# Altium integrated library Agilent Optoelectronic LED.IntLib: 357 symbols (part 3 of 6)
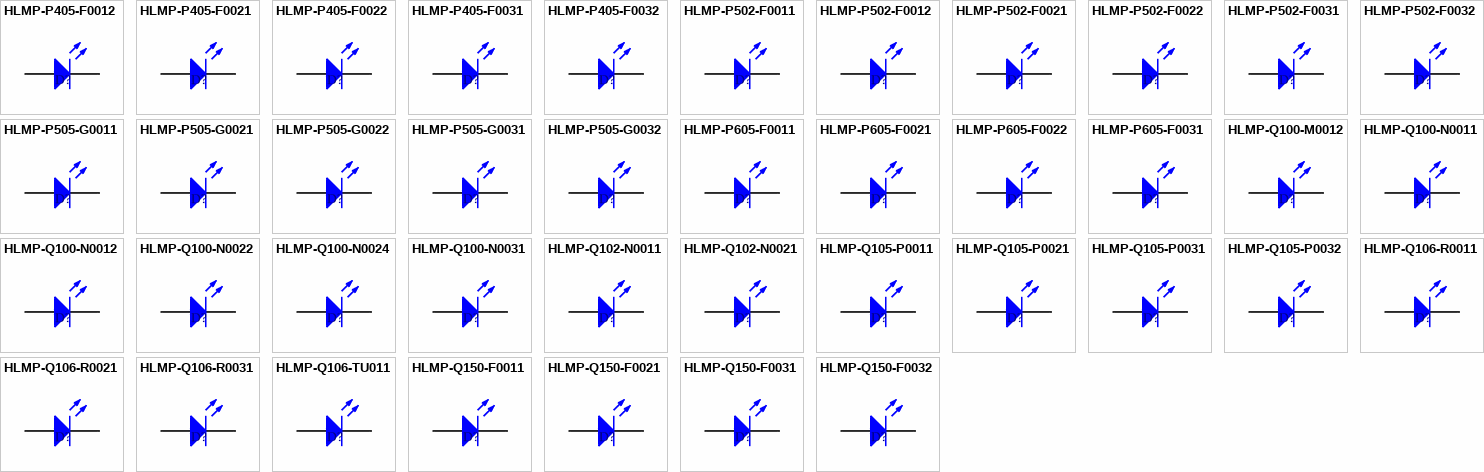
[diagram p10: symbols HLMP-P405-F0012 to HLMP-Q150-F0032]

## HLMP-P505-G0021
designator D?
Subminiature Green LED Lamp; LuminousIntensity: 1.6mcd (Minimum).; PCB_Layout: Complies with manufacturer's recommendation.; DrillSize: Nominal, Rounded to nearest 0.05mm; Published: 11-Dec-2002; DatasheetDocument: 30-Apr-2002; PackageDocument: 19-Apr-2001; PackageReference: 2.2X2.1X2.2Y; Publisher: Altium Limited; LED_Colour: Green; ComponentLink1Description: Manufacturer Link; ComponentLink1URL: http://www.agilent.com/; ComponentLink2Description: Datasheet; ComponentLink2URL: http://cp.literature.agilent.com/litweb/pdf/5988-6260EN.pdf
footprint 2.2X2.1X2.2Y (SM LED; 2 Yoke Leads)
simulation model Agl_HLMP7040 (Diode)
signal-integrity model LED
pins: 1 A, 2 K

## HLMP-P505-G0022
designator D?
Subminiature Green LED Lamp; LuminousIntensity: 1.6mcd (Minimum).; PCB_Layout: Complies with manufacturer's recommendation.; DrillSize: Nominal, Rounded to nearest 0.05mm; Published: 11-Dec-2002; DatasheetDocument: 30-Apr-2002; PackageDocument: 19-Apr-2001; PackageReference: 2.2X2.1X2.2Y; Publisher: Altium Limited; LED_Colour: Green; ComponentLink1Description: Manufacturer Link; ComponentLink1URL: http://www.agilent.com/; ComponentLink2Description: Datasheet; ComponentLink2URL: http://cp.literature.agilent.com/litweb/pdf/5988-6260EN.pdf
footprint 2.2X2.1X2.2Y (SM LED; 2 Yoke Leads)
simulation model Agl_HLMP7040 (Diode)
signal-integrity model LED
pins: 1 A, 2 K

## HLMP-P505-G0031
designator D?
Subminiature Green LED Lamp; LuminousIntensity: 1.6mcd (Minimum).; PCB_Layout: Complies with manufacturer's recommendation.; DrillSize: Nominal, Rounded to nearest 0.05mm; Published: 11-Dec-2002; DatasheetDocument: 30-Apr-2002; PackageDocument: 19-Apr-2001; PackageReference: 2.2X2.1X2.2Z; Publisher: Altium Limited; LED_Colour: Green; ComponentLink1Description: Manufacturer Link; ComponentLink1URL: http://www.agilent.com/; ComponentLink2Description: Datasheet; ComponentLink2URL: http://cp.literature.agilent.com/litweb/pdf/5988-6260EN.pdf
footprint 2.2X2.1X2.2Z (SM LED; 2 Z-Bend Leads)
simulation model Agl_HLMP7040 (Diode)
signal-integrity model LED
pins: 1 A, 2 K

## HLMP-P505-G0032
designator D?
Subminiature Green LED Lamp; LuminousIntensity: 1.6mcd (Minimum).; PCB_Layout: Complies with manufacturer's recommendation.; DrillSize: Nominal, Rounded to nearest 0.05mm; Published: 11-Dec-2002; DatasheetDocument: 30-Apr-2002; PackageDocument: 19-Apr-2001; PackageReference: 2.2X2.1X2.2Z; Publisher: Altium Limited; LED_Colour: Green; ComponentLink1Description: Manufacturer Link; ComponentLink1URL: http://www.agilent.com/; ComponentLink2Description: Datasheet; ComponentLink2URL: http://cp.literature.agilent.com/litweb/pdf/5988-6260EN.pdf
footprint 2.2X2.1X2.2Z (SM LED; 2 Z-Bend Leads)
simulation model Agl_HLMP7040 (Diode)
signal-integrity model LED
pins: 1 A, 2 K

## HLMP-P605-F0011
designator D?
Subminiature Green LED Lamp; LuminousIntensity: 1mcd (Minimum).; PCB_Layout: Complies with manufacturer's recommendation.; Published: 11-Dec-2002; LatestRevisionDate: 19-Mar-2004; LatestRevisionNote: Silkscreen size reduced.; DatasheetDocument: 30-Apr-2002; PackageDocument: 19-Apr-2001; PackageReference: 2.2X2.1X2.2; Publisher: Altium Limited; LED_Colour: Green; ComponentLink1Description: Manufacturer Link; ComponentLink1URL: http://www.agilent.com/; ComponentLink2Description: Datasheet; ComponentLink2URL: http://cp.literature.agilent.com/litweb/pdf/5988-6260EN.pdf
footprint 2.2X2.1X2.2 (SM LED; 2 Gull Wing Leads; Body 2.2 x 2.1 mm, (LxW))
simulation model Agl_HLMPQ605 (Diode)
signal-integrity model LED
pins: 1 A, 2 K

## HLMP-P605-F0021
designator D?
Subminiature Green LED Lamp; LuminousIntensity: 1mcd (Minimum).; PCB_Layout: Complies with manufacturer's recommendation.; DrillSize: Nominal, Rounded to nearest 0.05mm; Published: 11-Dec-2002; DatasheetDocument: 30-Apr-2002; PackageDocument: 19-Apr-2001; PackageReference: 2.2X2.1X2.2Y; Publisher: Altium Limited; LED_Colour: Green; ComponentLink1Description: Manufacturer Link; ComponentLink1URL: http://www.agilent.com/; ComponentLink2Description: Datasheet; ComponentLink2URL: http://cp.literature.agilent.com/litweb/pdf/5988-6260EN.pdf
footprint 2.2X2.1X2.2Y (SM LED; 2 Yoke Leads)
simulation model Agl_HLMPQ605 (Diode)
signal-integrity model LED
pins: 1 A, 2 K

## HLMP-P605-F0022
designator D?
Subminiature Green LED Lamp; LuminousIntensity: 1mcd (Minimum).; PCB_Layout: Complies with manufacturer's recommendation.; DrillSize: Nominal, Rounded to nearest 0.05mm; Published: 11-Dec-2002; DatasheetDocument: 30-Apr-2002; PackageDocument: 19-Apr-2001; PackageReference: 2.2X2.1X2.2Y; Publisher: Altium Limited; LED_Colour: Green; ComponentLink1Description: Manufacturer Link; ComponentLink1URL: http://www.agilent.com/; ComponentLink2Description: Datasheet; ComponentLink2URL: http://cp.literature.agilent.com/litweb/pdf/5988-6260EN.pdf
footprint 2.2X2.1X2.2Y (SM LED; 2 Yoke Leads)
simulation model Agl_HLMPQ605 (Diode)
signal-integrity model LED
pins: 1 A, 2 K

## HLMP-P605-F0031
designator D?
Subminiature Green LED Lamp; LuminousIntensity: 1mcd (Minimum).; PCB_Layout: Complies with manufacturer's recommendation.; DrillSize: Nominal, Rounded to nearest 0.05mm; Published: 11-Dec-2002; DatasheetDocument: 30-Apr-2002; PackageDocument: 19-Apr-2001; PackageReference: 2.2X2.1X2.2Z; Publisher: Altium Limited; LED_Colour: Green; ComponentLink1Description: Manufacturer Link; ComponentLink1URL: http://www.agilent.com/; ComponentLink2Description: Datasheet; ComponentLink2URL: http://cp.literature.agilent.com/litweb/pdf/5988-6260EN.pdf
footprint 2.2X2.1X2.2Z (SM LED; 2 Z-Bend Leads)
simulation model Agl_HLMPQ605 (Diode)
signal-integrity model LED
pins: 1 A, 2 K

## HLMP-Q100-M0012
designator D?
Subminiature Red LED Lamp; LuminousIntensity: 16mcd (Minimum).; PCB_Layout: Complies with manufacturer's recommendation.; Published: 11-Dec-2002; LatestRevisionDate: 19-Mar-2004; LatestRevisionNote: Silkscreen size reduced.; DatasheetDocument: 30-Apr-2002; PackageDocument: 19-Apr-2001; PackageReference: 2.2X2.1X2.9; Publisher: Altium Limited; LED_Colour: Red; ComponentLink1Description: Manufacturer Link; ComponentLink1URL: http://www.agilent.com/; ComponentLink2Description: Datasheet; ComponentLink2URL: http://cp.literature.agilent.com/litweb/pdf/5988-6260EN.pdf
footprint 2.2X2.1X2.9 (SM LED; 2 Gull Wing Leads; Body 2.2 x 2.1 mm, (LxW))
simulation model Agl_HLMPQ100 (Diode)
signal-integrity model LED
pins: 1 A, 2 K

## HLMP-Q100-N0011
designator D?
Subminiature Red LED Lamp; LuminousIntensity: 25mcd (Minimum).; PCB_Layout: Complies with manufacturer's recommendation.; Published: 11-Dec-2002; LatestRevisionDate: 19-Mar-2004; LatestRevisionNote: Silkscreen size reduced.; DatasheetDocument: 30-Apr-2002; PackageDocument: 19-Apr-2001; PackageReference: 2.2X2.1X2.9; Publisher: Altium Limited; LED_Colour: Red; ComponentLink1Description: Manufacturer Link; ComponentLink1URL: http://www.agilent.com/; ComponentLink2Description: Datasheet; ComponentLink2URL: http://cp.literature.agilent.com/litweb/pdf/5988-6260EN.pdf
footprint 2.2X2.1X2.9 (SM LED; 2 Gull Wing Leads; Body 2.2 x 2.1 mm, (LxW))
simulation model Agl_HLMPQ100 (Diode)
signal-integrity model LED
pins: 1 A, 2 K

## HLMP-Q100-N0012
designator D?
Subminiature Red LED Lamp; LuminousIntensity: 25mcd (Minimum).; PCB_Layout: Complies with manufacturer's recommendation.; Published: 11-Dec-2002; LatestRevisionDate: 19-Mar-2004; LatestRevisionNote: Silkscreen size reduced.; DatasheetDocument: 30-Apr-2002; PackageDocument: 19-Apr-2001; PackageReference: 2.2X2.1X2.9; Publisher: Altium Limited; LED_Colour: Red; ComponentLink1Description: Manufacturer Link; ComponentLink1URL: http://www.agilent.com/; ComponentLink2Description: Datasheet; ComponentLink2URL: http://cp.literature.agilent.com/litweb/pdf/5988-6260EN.pdf
footprint 2.2X2.1X2.9 (SM LED; 2 Gull Wing Leads; Body 2.2 x 2.1 mm, (LxW))
simulation model Agl_HLMPQ100 (Diode)
signal-integrity model LED
pins: 1 A, 2 K

## HLMP-Q100-N0022
designator D?
Subminiature Red LED Lamp; LuminousIntensity: 25mcd (Minimum).; PCB_Layout: Complies with manufacturer's recommendation.; DrillSize: Nominal, Rounded to nearest 0.05mm; Published: 11-Dec-2002; DatasheetDocument: 30-Apr-2002; PackageDocument: 19-Apr-2001; PackageReference: 2.2X2.1X2.9Y; Publisher: Altium Limited; LED_Colour: Red; ComponentLink1Description: Manufacturer Link; ComponentLink1URL: http://www.agilent.com/; ComponentLink2Description: Datasheet; ComponentLink2URL: http://cp.literature.agilent.com/litweb/pdf/5988-6260EN.pdf
footprint 2.2X2.1X2.9Y (SM LED; 2 Yoke Leads)
simulation model Agl_HLMPQ100 (Diode)
signal-integrity model LED
pins: 1 A, 2 K

## HLMP-Q100-N0024
designator D?
Subminiature Red LED Lamp; LuminousIntensity: 25mcd (Minimum).; PCB_Layout: Complies with manufacturer's recommendation.; DrillSize: Nominal, Rounded to nearest 0.05mm; Published: 11-Dec-2002; DatasheetDocument: 30-Apr-2002; PackageDocument: 19-Apr-2001; PackageReference: 2.2X2.1X2.9Y; Publisher: Altium Limited; LED_Colour: Red; ComponentLink1Description: Manufacturer Link; ComponentLink1URL: http://www.agilent.com/; ComponentLink2Description: Datasheet; ComponentLink2URL: http://cp.literature.agilent.com/litweb/pdf/5988-6260EN.pdf
footprint 2.2X2.1X2.9Y (SM LED; 2 Yoke Leads)
simulation model Agl_HLMPQ100 (Diode)
signal-integrity model LED
pins: 1 A, 2 K

## HLMP-Q100-N0031
designator D?
Subminiature Red LED Lamp; LuminousIntensity: 25mcd (Minimum).; PCB_Layout: Complies with manufacturer's recommendation.; DrillSize: Nominal, Rounded to nearest 0.05mm; Published: 11-Dec-2002; DatasheetDocument: 30-Apr-2002; PackageDocument: 19-Apr-2001; PackageReference: 2.2X2.1X2.9Z; Publisher: Altium Limited; LED_Colour: Red; ComponentLink1Description: Manufacturer Link; ComponentLink1URL: http://www.agilent.com/; ComponentLink2Description: Datasheet; ComponentLink2URL: http://cp.literature.agilent.com/litweb/pdf/5988-6260EN.pdf
footprint 2.2X2.1X2.9Z (SM LED; 2 Z-Bend Leads)
simulation model Agl_HLMPQ100 (Diode)
signal-integrity model LED
pins: 1 A, 2 K

## HLMP-Q102-N0011
designator D?
Subminiature High Performance TS AlGaAs Red LED Lamp; LuminousIntensity: 25mcd (Minimum).; PCB_Layout: Complies with manufacturer's recommendation.; Published: 11-Dec-2002; LatestRevisionDate: 19-Mar-2004; LatestRevisionNote: Silkscreen size reduced.; DatasheetDocument: 4-Jun-2001; PackageDocument: 19-Apr-2001; PackageReference: 2.2X2.1X2.9; Publisher: Altium Limited; LED_Colour: Red; ComponentLink1Description: Manufacturer Link; ComponentLink1URL: http://www.agilent.com/; ComponentLink2Description: Datasheet; ComponentLink2URL: http://cp.literature.agilent.com/litweb/pdf/5980-2437E.pdf
footprint 2.2X2.1X2.9 (SM LED; 2 Gull Wing Leads; Body 2.2 x 2.1 mm, (LxW))
simulation model Agl_HLMPQ102 (Diode)
signal-integrity model LED
pins: 1 A, 2 K

## HLMP-Q102-N0021
designator D?
Subminiature High Performance TS AlGaAs Red LED Lamp; LuminousIntensity: 25mcd (Minimum).; PCB_Layout: Complies with manufacturer's recommendation.; DrillSize: Nominal, Rounded to nearest 0.05mm; Published: 11-Dec-2002; DatasheetDocument: 4-Jun-2001; PackageDocument: 19-Apr-2001; PackageReference: 2.2X2.1X2.9Y; Publisher: Altium Limited; LED_Colour: Red; ComponentLink1Description: Manufacturer Link; ComponentLink1URL: http://www.agilent.com/; ComponentLink2Description: Datasheet; ComponentLink2URL: http://cp.literature.agilent.com/litweb/pdf/5980-2437E.pdf
footprint 2.2X2.1X2.9Y (SM LED; 2 Yoke Leads)
simulation model Agl_HLMPQ102 (Diode)
signal-integrity model LED
pins: 1 A, 2 K

## HLMP-Q105-P0011
designator D?
Subminiature Red LED Lamp; LuminousIntensity: 40mcd (Minimum).; PCB_Layout: Complies with manufacturer's recommendation.; Published: 11-Dec-2002; LatestRevisionDate: 19-Mar-2004; LatestRevisionNote: Silkscreen size reduced.; DatasheetDocument: 30-Apr-2002; PackageDocument: 19-Apr-2001; PackageReference: 2.2X2.1X2.9; Publisher: Altium Limited; LED_Colour: Red; ComponentLink1Description: Manufacturer Link; ComponentLink1URL: http://www.agilent.com/; ComponentLink2Description: Datasheet; ComponentLink2URL: http://cp.literature.agilent.com/litweb/pdf/5988-6260EN.pdf
footprint 2.2X2.1X2.9 (SM LED; 2 Gull Wing Leads; Body 2.2 x 2.1 mm, (LxW))
simulation model Agl_HLMPQ100 (Diode)
signal-integrity model LED
pins: 1 A, 2 K

## HLMP-Q105-P0021
designator D?
Subminiature Red LED Lamp; LuminousIntensity: 40mcd (Minimum).; PCB_Layout: Complies with manufacturer's recommendation.; DrillSize: Nominal, Rounded to nearest 0.05mm; Published: 11-Dec-2002; DatasheetDocument: 30-Apr-2002; PackageDocument: 19-Apr-2001; PackageReference: 2.2X2.1X2.9Y; Publisher: Altium Limited; LED_Colour: Red; ComponentLink1Description: Manufacturer Link; ComponentLink1URL: http://www.agilent.com/; ComponentLink2Description: Datasheet; ComponentLink2URL: http://cp.literature.agilent.com/litweb/pdf/5988-6260EN.pdf
footprint 2.2X2.1X2.9Y (SM LED; 2 Yoke Leads)
simulation model Agl_HLMPQ100 (Diode)
signal-integrity model LED
pins: 1 A, 2 K

## HLMP-Q105-P0031
designator D?
Subminiature Red LED Lamp; LuminousIntensity: 40mcd (Minimum).; PCB_Layout: Complies with manufacturer's recommendation.; DrillSize: Nominal, Rounded to nearest 0.05mm; Published: 11-Dec-2002; DatasheetDocument: 30-Apr-2002; PackageDocument: 19-Apr-2001; PackageReference: 2.2X2.1X2.9Z; Publisher: Altium Limited; LED_Colour: Red; ComponentLink1Description: Manufacturer Link; ComponentLink1URL: http://www.agilent.com/; ComponentLink2Description: Datasheet; ComponentLink2URL: http://cp.literature.agilent.com/litweb/pdf/5988-6260EN.pdf
footprint 2.2X2.1X2.9Z (SM LED; 2 Z-Bend Leads)
simulation model Agl_HLMPQ100 (Diode)
signal-integrity model LED
pins: 1 A, 2 K

## HLMP-Q105-P0032
designator D?
Subminiature Red LED Lamp; LuminousIntensity: 40mcd (Minimum).; PCB_Layout: Complies with manufacturer's recommendation.; DrillSize: Nominal, Rounded to nearest 0.05mm; Published: 11-Dec-2002; DatasheetDocument: 30-Apr-2002; PackageDocument: 19-Apr-2001; PackageReference: 2.2X2.1X2.9Z; Publisher: Altium Limited; LED_Colour: Red; ComponentLink1Description: Manufacturer Link; ComponentLink1URL: http://www.agilent.com/; ComponentLink2Description: Datasheet; ComponentLink2URL: http://cp.literature.agilent.com/litweb/pdf/5988-6260EN.pdf
footprint 2.2X2.1X2.9Z (SM LED; 2 Z-Bend Leads)
simulation model Agl_HLMPQ100 (Diode)
signal-integrity model LED
pins: 1 A, 2 K

## HLMP-Q106-R0011
designator D?
Subminiature High Performance TS AlGaAs Red LED Lamp; LuminousIntensity: 100mcd (Minimum).; PCB_Layout: Complies with manufacturer's recommendation.; Published: 11-Dec-2002; LatestRevisionDate: 19-Mar-2004; LatestRevisionNote: Silkscreen size reduced.; DatasheetDocument: 4-Jun-2001; PackageDocument: 19-Apr-2001; PackageReference: 2.2X2.1X2.9; Publisher: Altium Limited; LED_Colour: Red; ComponentLink1Description: Manufacturer Link; ComponentLink1URL: http://www.agilent.com/; ComponentLink2Description: Datasheet; ComponentLink2URL: http://cp.literature.agilent.com/litweb/pdf/5980-2437E.pdf
footprint 2.2X2.1X2.9 (SM LED; 2 Gull Wing Leads; Body 2.2 x 2.1 mm, (LxW))
simulation model Agl_HLMPQ102 (Diode)
signal-integrity model LED
pins: 1 A, 2 K

## HLMP-Q106-R0021
designator D?
Subminiature High Performance TS AlGaAs Red LED Lamp; LuminousIntensity: 100mcd (Minimum).; PCB_Layout: Complies with manufacturer's recommendation.; DrillSize: Nominal, Rounded to nearest 0.05mm; Published: 11-Dec-2002; DatasheetDocument: 4-Jun-2001; PackageDocument: 19-Apr-2001; PackageReference: 2.2X2.1X2.9Y; Publisher: Altium Limited; LED_Colour: Red; ComponentLink1Description: Manufacturer Link; ComponentLink1URL: http://www.agilent.com/; ComponentLink2Description: Datasheet; ComponentLink2URL: http://cp.literature.agilent.com/litweb/pdf/5980-2437E.pdf
footprint 2.2X2.1X2.9Y (SM LED; 2 Yoke Leads)
simulation model Agl_HLMPQ102 (Diode)
signal-integrity model LED
pins: 1 A, 2 K

## HLMP-Q106-R0031
designator D?
Subminiature High Performance TS AlGaAs Red LED Lamp; LuminousIntensity: 100mcd (Minimum).; PCB_Layout: Complies with manufacturer's recommendation.; DrillSize: Nominal, Rounded to nearest 0.05mm; Published: 11-Dec-2002; DatasheetDocument: 4-Jun-2001; PackageDocument: 19-Apr-2001; PackageReference: 2.2X2.1X2.9Z; Publisher: Altium Limited; LED_Colour: Red; ComponentLink1Description: Manufacturer Link; ComponentLink1URL: http://www.agilent.com/; ComponentLink2Description: Datasheet; ComponentLink2URL: http://cp.literature.agilent.com/litweb/pdf/5980-2437E.pdf
footprint 2.2X2.1X2.9Z (SM LED; 2 Z-Bend Leads)
simulation model Agl_HLMPQ102 (Diode)
signal-integrity model LED
pins: 1 A, 2 K

## HLMP-Q106-TU011
designator D?
Subminiature High Performance TS AlGaAs Red LED Lamp; LuminousIntensity: 250mcd (Minimum).; PCB_Layout: Complies with manufacturer's recommendation.; Published: 11-Dec-2002; LatestRevisionDate: 19-Mar-2004; LatestRevisionNote: Silkscreen size reduced.; DatasheetDocument: 4-Jun-2001; PackageDocument: 19-Apr-2001; PackageReference: 2.2X2.1X2.9; Publisher: Altium Limited; LED_Colour: Red; ComponentLink1Description: Manufacturer Link; ComponentLink1URL: http://www.agilent.com/; ComponentLink2Description: Datasheet; ComponentLink2URL: http://cp.literature.agilent.com/litweb/pdf/5980-2437E.pdf
footprint 2.2X2.1X2.9 (SM LED; 2 Gull Wing Leads; Body 2.2 x 2.1 mm, (LxW))
simulation model Agl_HLMPQ102 (Diode)
signal-integrity model LED
pins: 1 A, 2 K

## HLMP-Q150-F0011
designator D?
Subminiature Red LED Lamp; LuminousIntensity: 1mcd (Minimum).; PCB_Layout: Complies with manufacturer's recommendation.; Published: 11-Dec-2002; LatestRevisionDate: 19-Mar-2004; LatestRevisionNote: Silkscreen size reduced.; DatasheetDocument: 30-Apr-2002; PackageDocument: 19-Apr-2001; PackageReference: 2.2X2.1X2.9; Publisher: Altium Limited; LED_Colour: Red; ComponentLink1Description: Manufacturer Link; ComponentLink1URL: http://www.agilent.com/; ComponentLink2Description: Datasheet; ComponentLink2URL: http://cp.literature.agilent.com/litweb/pdf/5988-6260EN.pdf
footprint 2.2X2.1X2.9 (SM LED; 2 Gull Wing Leads; Body 2.2 x 2.1 mm, (LxW))
simulation model Agl_HLMPQ150 (Diode)
signal-integrity model LED
pins: 1 A, 2 K

## HLMP-Q150-F0021
designator D?
Subminiature Red LED Lamp; LuminousIntensity: 1mcd (Minimum).; PCB_Layout: Complies with manufacturer's recommendation.; DrillSize: Nominal, Rounded to nearest 0.05mm; Published: 11-Dec-2002; DatasheetDocument: 30-Apr-2002; PackageDocument: 19-Apr-2001; PackageReference: 2.2X2.1X2.9Y; Publisher: Altium Limited; LED_Colour: Red; ComponentLink1Description: Manufacturer Link; ComponentLink1URL: http://www.agilent.com/; ComponentLink2Description: Datasheet; ComponentLink2URL: http://cp.literature.agilent.com/litweb/pdf/5988-6260EN.pdf
footprint 2.2X2.1X2.9Y (SM LED; 2 Yoke Leads)
simulation model Agl_HLMPQ150 (Diode)
signal-integrity model LED
pins: 1 A, 2 K

## HLMP-Q150-F0031
designator D?
Subminiature Red LED Lamp; LuminousIntensity: 1mcd (Minimum).; PCB_Layout: Complies with manufacturer's recommendation.; DrillSize: Nominal, Rounded to nearest 0.05mm; Published: 11-Dec-2002; DatasheetDocument: 30-Apr-2002; PackageDocument: 19-Apr-2001; PackageReference: 2.2X2.1X2.9Z; Publisher: Altium Limited; LED_Colour: Red; ComponentLink1Description: Manufacturer Link; ComponentLink1URL: http://www.agilent.com/; ComponentLink2Description: Datasheet; ComponentLink2URL: http://cp.literature.agilent.com/litweb/pdf/5988-6260EN.pdf
footprint 2.2X2.1X2.9Z (SM LED; 2 Z-Bend Leads)
simulation model Agl_HLMPQ150 (Diode)
signal-integrity model LED
pins: 1 A, 2 K

## HLMP-Q150-F0032
designator D?
Subminiature Red LED Lamp; LuminousIntensity: 1mcd (Minimum).; PCB_Layout: Complies with manufacturer's recommendation.; DrillSize: Nominal, Rounded to nearest 0.05mm; Published: 11-Dec-2002; DatasheetDocument: 30-Apr-2002; PackageDocument: 19-Apr-2001; PackageReference: 2.2X2.1X2.9Z; Publisher: Altium Limited; LED_Colour: Red; ComponentLink1Description: Manufacturer Link; ComponentLink1URL: http://www.agilent.com/; ComponentLink2Description: Datasheet; ComponentLink2URL: http://cp.literature.agilent.com/litweb/pdf/5988-6260EN.pdf
footprint 2.2X2.1X2.9Z (SM LED; 2 Z-Bend Leads)
simulation model Agl_HLMPQ150 (Diode)
signal-integrity model LED
pins: 1 A, 2 K

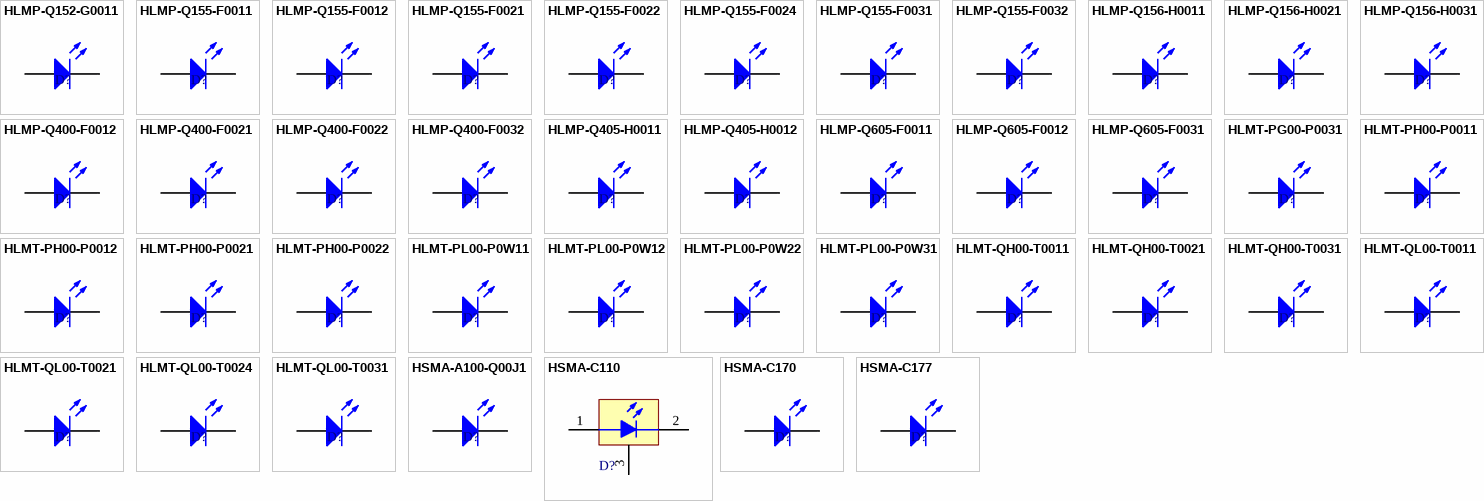
[diagram p4: symbols HLMP-Q152-G0011 to HSMA-C177]

## HLMP-Q152-G0011
designator D?
Subminiature High Performance TS AlGaAs Red LED Lamp; LuminousIntensity: 1mcd (Minimum).; PCB_Layout: Complies with manufacturer's recommendation.; Published: 11-Dec-2002; LatestRevisionDate: 19-Mar-2004; LatestRevisionNote: Silkscreen size reduced.; DatasheetDocument: 30-Apr-2002; PackageDocument: 19-Apr-2001; PackageReference: 2.2X2.1X2.9; Publisher: Altium Limited; LED_Colour: Red; ComponentLink1Description: Manufacturer Link; ComponentLink1URL: http://www.agilent.com/; ComponentLink2Description: Datasheet; ComponentLink2URL: http://cp.literature.agilent.com/litweb/pdf/5988-6260EN.pdf
footprint 2.2X2.1X2.9 (SM LED; 2 Gull Wing Leads; Body 2.2 x 2.1 mm, (LxW))
simulation model Agl_HLMPQ152 (Diode)
signal-integrity model LED
pins: 1 A, 2 K

## HLMP-Q155-F0011
designator D?
Subminiature Red LED Lamp; LuminousIntensity: 1mcd (Minimum).; PCB_Layout: Complies with manufacturer's recommendation.; Published: 11-Dec-2002; LatestRevisionDate: 19-Mar-2004; LatestRevisionNote: Silkscreen size reduced.; DatasheetDocument: 30-Apr-2002; PackageDocument: 19-Apr-2001; PackageReference: 2.2X2.1X2.9; Publisher: Altium Limited; LED_Colour: Red; ComponentLink1Description: Manufacturer Link; ComponentLink1URL: http://www.agilent.com/; ComponentLink2Description: Datasheet; ComponentLink2URL: http://cp.literature.agilent.com/litweb/pdf/5988-6260EN.pdf
footprint 2.2X2.1X2.9 (SM LED; 2 Gull Wing Leads; Body 2.2 x 2.1 mm, (LxW))
simulation model Agl_HLMPQ150 (Diode)
signal-integrity model LED
pins: 1 A, 2 K

## HLMP-Q155-F0012
designator D?
Subminiature Red LED Lamp; LuminousIntensity: 1mcd (Minimum).; PCB_Layout: Complies with manufacturer's recommendation.; Published: 11-Dec-2002; LatestRevisionDate: 19-Mar-2004; LatestRevisionNote: Silkscreen size reduced.; DatasheetDocument: 30-Apr-2002; PackageDocument: 19-Apr-2001; PackageReference: 2.2X2.1X2.9; Publisher: Altium Limited; LED_Colour: Red; ComponentLink1Description: Manufacturer Link; ComponentLink1URL: http://www.agilent.com/; ComponentLink2Description: Datasheet; ComponentLink2URL: http://cp.literature.agilent.com/litweb/pdf/5988-6260EN.pdf
footprint 2.2X2.1X2.9 (SM LED; 2 Gull Wing Leads; Body 2.2 x 2.1 mm, (LxW))
simulation model Agl_HLMPQ150 (Diode)
signal-integrity model LED
pins: 1 A, 2 K

## HLMP-Q155-F0021
designator D?
Subminiature Red LED Lamp; LuminousIntensity: 1mcd (Minimum).; PCB_Layout: Complies with manufacturer's recommendation.; DrillSize: Nominal, Rounded to nearest 0.05mm; Published: 11-Dec-2002; DatasheetDocument: 30-Apr-2002; PackageDocument: 19-Apr-2001; PackageReference: 2.2X2.1X2.9Y; Publisher: Altium Limited; LED_Colour: Red; ComponentLink1Description: Manufacturer Link; ComponentLink1URL: http://www.agilent.com/; ComponentLink2Description: Datasheet; ComponentLink2URL: http://cp.literature.agilent.com/litweb/pdf/5988-6260EN.pdf
footprint 2.2X2.1X2.9Y (SM LED; 2 Yoke Leads)
simulation model Agl_HLMPQ150 (Diode)
signal-integrity model LED
pins: 1 A, 2 K

## HLMP-Q155-F0022
designator D?
Subminiature Red LED Lamp; LuminousIntensity: 1mcd (Minimum).; PCB_Layout: Complies with manufacturer's recommendation.; DrillSize: Nominal, Rounded to nearest 0.05mm; Published: 11-Dec-2002; DatasheetDocument: 30-Apr-2002; PackageDocument: 19-Apr-2001; PackageReference: 2.2X2.1X2.9Y; Publisher: Altium Limited; LED_Colour: Red; ComponentLink1Description: Manufacturer Link; ComponentLink1URL: http://www.agilent.com/; ComponentLink2Description: Datasheet; ComponentLink2URL: http://cp.literature.agilent.com/litweb/pdf/5988-6260EN.pdf
footprint 2.2X2.1X2.9Y (SM LED; 2 Yoke Leads)
simulation model Agl_HLMPQ150 (Diode)
signal-integrity model LED
pins: 1 A, 2 K

## HLMP-Q155-F0024
designator D?
Subminiature Red LED Lamp; LuminousIntensity: 1mcd (Minimum).; PCB_Layout: Complies with manufacturer's recommendation.; DrillSize: Nominal, Rounded to nearest 0.05mm; Published: 11-Dec-2002; DatasheetDocument: 30-Apr-2002; PackageDocument: 19-Apr-2001; PackageReference: 2.2X2.1X2.9Y; Publisher: Altium Limited; LED_Colour: Red; ComponentLink1Description: Manufacturer Link; ComponentLink1URL: http://www.agilent.com/; ComponentLink2Description: Datasheet; ComponentLink2URL: http://cp.literature.agilent.com/litweb/pdf/5988-6260EN.pdf
footprint 2.2X2.1X2.9Y (SM LED; 2 Yoke Leads)
simulation model Agl_HLMPQ150 (Diode)
signal-integrity model LED
pins: 1 A, 2 K

## HLMP-Q155-F0031
designator D?
Subminiature Red LED Lamp; LuminousIntensity: 1mcd (Minimum).; PCB_Layout: Complies with manufacturer's recommendation.; DrillSize: Nominal, Rounded to nearest 0.05mm; Published: 11-Dec-2002; DatasheetDocument: 30-Apr-2002; PackageDocument: 19-Apr-2001; PackageReference: 2.2X2.1X2.9Z; Publisher: Altium Limited; LED_Colour: Red; ComponentLink1Description: Manufacturer Link; ComponentLink1URL: http://www.agilent.com/; ComponentLink2Description: Datasheet; ComponentLink2URL: http://cp.literature.agilent.com/litweb/pdf/5988-6260EN.pdf
footprint 2.2X2.1X2.9Z (SM LED; 2 Z-Bend Leads)
simulation model Agl_HLMPQ150 (Diode)
signal-integrity model LED
pins: 1 A, 2 K

## HLMP-Q155-F0032
designator D?
Subminiature Red LED Lamp; LuminousIntensity: 1mcd (Minimum).; PCB_Layout: Complies with manufacturer's recommendation.; DrillSize: Nominal, Rounded to nearest 0.05mm; Published: 11-Dec-2002; DatasheetDocument: 30-Apr-2002; PackageDocument: 19-Apr-2001; PackageReference: 2.2X2.1X2.9Z; Publisher: Altium Limited; LED_Colour: Red; ComponentLink1Description: Manufacturer Link; ComponentLink1URL: http://www.agilent.com/; ComponentLink2Description: Datasheet; ComponentLink2URL: http://cp.literature.agilent.com/litweb/pdf/5988-6260EN.pdf
footprint 2.2X2.1X2.9Z (SM LED; 2 Z-Bend Leads)
simulation model Agl_HLMPQ150 (Diode)
signal-integrity model LED
pins: 1 A, 2 K

## HLMP-Q156-H0011
designator D?
Subminiature High Performance TS AlGaAs Red LED Lamp; LuminousIntensity: 2.5mcd (Minimum).; PCB_Layout: Complies with manufacturer's recommendation.; Published: 11-Dec-2002; LatestRevisionDate: 19-Mar-2004; LatestRevisionNote: Silkscreen size reduced.; DatasheetDocument: 4-Jun-2001; PackageDocument: 19-Apr-2001; PackageReference: 2.2X2.1X2.9; Publisher: Altium Limited; LED_Colour: Red; ComponentLink1Description: Manufacturer Link; ComponentLink1URL: http://www.agilent.com/; ComponentLink2Description: Datasheet; ComponentLink2URL: http://cp.literature.agilent.com/litweb/pdf/5980-2437E.pdf
footprint 2.2X2.1X2.9 (SM LED; 2 Gull Wing Leads; Body 2.2 x 2.1 mm, (LxW))
simulation model Agl_HLMPQ152 (Diode)
signal-integrity model LED
pins: 1 A, 2 K

## HLMP-Q156-H0021
designator D?
Subminiature High Performance TS AlGaAs Red LED Lamp; LuminousIntensity: 2.5mcd (Minimum).; PCB_Layout: Complies with manufacturer's recommendation.; DrillSize: Nominal, Rounded to nearest 0.05mm; Published: 11-Dec-2002; DatasheetDocument: 4-Jun-2001; PackageDocument: 19-Apr-2001; PackageReference: 2.2X2.1X2.9Y; Publisher: Altium Limited; LED_Colour: Red; ComponentLink1Description: Manufacturer Link; ComponentLink1URL: http://www.agilent.com/; ComponentLink2Description: Datasheet; ComponentLink2URL: http://cp.literature.agilent.com/litweb/pdf/5980-2437E.pdf
footprint 2.2X2.1X2.9Y (SM LED; 2 Yoke Leads)
simulation model Agl_HLMPQ152 (Diode)
signal-integrity model LED
pins: 1 A, 2 K

## HLMP-Q156-H0031
designator D?
Subminiature High Performance TS AlGaAs Red LED Lamp; LuminousIntensity: 2.5mcd (Minimum).; PCB_Layout: Complies with manufacturer's recommendation.; DrillSize: Nominal, Rounded to nearest 0.05mm; Published: 11-Dec-2002; DatasheetDocument: 4-Jun-2001; PackageDocument: 19-Apr-2001; PackageReference: 2.2X2.1X2.9Z; Publisher: Altium Limited; LED_Colour: Red; ComponentLink1Description: Manufacturer Link; ComponentLink1URL: http://www.agilent.com/; ComponentLink2Description: Datasheet; ComponentLink2URL: http://cp.literature.agilent.com/litweb/pdf/5980-2437E.pdf
footprint 2.2X2.1X2.9Z (SM LED; 2 Z-Bend Leads)
simulation model Agl_HLMPQ152 (Diode)
signal-integrity model LED
pins: 1 A, 2 K

## HLMP-Q400-F0012
designator D?
Subminiature Orange LED Lamp; LuminousIntensity: 1mcd (Minimum).; PCB_Layout: Complies with manufacturer's recommendation.; Published: 11-Dec-2002; LatestRevisionDate: 19-Mar-2004; LatestRevisionNote: Silkscreen size reduced.; DatasheetDocument: 30-Apr-2002; PackageDocument: 19-Apr-2001; PackageReference: 2.2X2.1X2.9; Publisher: Altium Limited; LED_Colour: Orange; ComponentLink1Description: Manufacturer Link; ComponentLink1URL: http://www.agilent.com/; ComponentLink2Description: Datasheet; ComponentLink2URL: http://cp.literature.agilent.com/litweb/pdf/5988-6260EN.pdf
footprint 2.2X2.1X2.9 (SM LED; 2 Gull Wing Leads; Body 2.2 x 2.1 mm, (LxW))
simulation model Agl_HLMPQ400 (Diode)
signal-integrity model LED
pins: 1 A, 2 K

## HLMP-Q400-F0021
designator D?
Subminiature Orange LED Lamp; LuminousIntensity: 1mcd (Minimum).; PCB_Layout: Complies with manufacturer's recommendation.; DrillSize: Nominal, Rounded to nearest 0.05mm; Published: 11-Dec-2002; DatasheetDocument: 30-Apr-2002; PackageDocument: 19-Apr-2001; PackageReference: 2.2X2.1X2.9Y; Publisher: Altium Limited; LED_Colour: Orange; ComponentLink1Description: Manufacturer Link; ComponentLink1URL: http://www.agilent.com/; ComponentLink2Description: Datasheet; ComponentLink2URL: http://cp.literature.agilent.com/litweb/pdf/5988-6260EN.pdf
footprint 2.2X2.1X2.9Y (SM LED; 2 Yoke Leads)
simulation model Agl_HLMPQ400 (Diode)
signal-integrity model LED
pins: 1 A, 2 K

## HLMP-Q400-F0022
designator D?
Subminiature Orange LED Lamp; LuminousIntensity: 1mcd (Minimum).; PCB_Layout: Complies with manufacturer's recommendation.; DrillSize: Nominal, Rounded to nearest 0.05mm; Published: 11-Dec-2002; DatasheetDocument: 30-Apr-2002; PackageDocument: 19-Apr-2001; PackageReference: 2.2X2.1X2.9Y; Publisher: Altium Limited; LED_Colour: Orange; ComponentLink1Description: Manufacturer Link; ComponentLink1URL: http://www.agilent.com/; ComponentLink2Description: Datasheet; ComponentLink2URL: http://cp.literature.agilent.com/litweb/pdf/5988-6260EN.pdf
footprint 2.2X2.1X2.9Y (SM LED; 2 Yoke Leads)
simulation model Agl_HLMPQ400 (Diode)
signal-integrity model LED
pins: 1 A, 2 K

## HLMP-Q400-F0032
designator D?
Subminiature Orange LED Lamp; LuminousIntensity: 1mcd (Minimum).; PCB_Layout: Complies with manufacturer's recommendation.; DrillSize: Nominal, Rounded to nearest 0.05mm; Published: 11-Dec-2002; DatasheetDocument: 30-Apr-2002; PackageDocument: 19-Apr-2001; PackageReference: 2.2X2.1X2.9Z; Publisher: Altium Limited; LED_Colour: Orange; ComponentLink1Description: Manufacturer Link; ComponentLink1URL: http://www.agilent.com/; ComponentLink2Description: Datasheet; ComponentLink2URL: http://cp.literature.agilent.com/litweb/pdf/5988-6260EN.pdf
footprint 2.2X2.1X2.9Z (SM LED; 2 Z-Bend Leads)
simulation model Agl_HLMPQ400 (Diode)
signal-integrity model LED
pins: 1 A, 2 K

## HLMP-Q405-H0011
designator D?
Subminiature Orange LED Lamp; LuminousIntensity: 2.5mcd (Minimum).; PCB_Layout: Complies with manufacturer's recommendation.; Published: 11-Dec-2002; LatestRevisionDate: 19-Mar-2004; LatestRevisionNote: Silkscreen size reduced.; DatasheetDocument: 30-Apr-2002; PackageDocument: 19-Apr-2001; PackageReference: 2.2X2.1X2.9; Publisher: Altium Limited; LED_Colour: Orange; ComponentLink1Description: Manufacturer Link; ComponentLink1URL: http://www.agilent.com/; ComponentLink2Description: Datasheet; ComponentLink2URL: http://cp.literature.agilent.com/litweb/pdf/5988-6260EN.pdf
footprint 2.2X2.1X2.9 (SM LED; 2 Gull Wing Leads; Body 2.2 x 2.1 mm, (LxW))
simulation model Agl_HLMPQ400 (Diode)
signal-integrity model LED
pins: 1 A, 2 K

## HLMP-Q405-H0012
designator D?
Subminiature Orange LED Lamp; LuminousIntensity: 2.5mcd (Minimum).; PCB_Layout: Complies with manufacturer's recommendation.; Published: 11-Dec-2002; LatestRevisionDate: 19-Mar-2004; LatestRevisionNote: Silkscreen size reduced.; DatasheetDocument: 30-Apr-2002; PackageDocument: 19-Apr-2001; PackageReference: 2.2X2.1X2.9; Publisher: Altium Limited; LED_Colour: Orange; ComponentLink1Description: Manufacturer Link; ComponentLink1URL: http://www.agilent.com/; ComponentLink2Description: Datasheet; ComponentLink2URL: http://cp.literature.agilent.com/litweb/pdf/5988-6260EN.pdf
footprint 2.2X2.1X2.9 (SM LED; 2 Gull Wing Leads; Body 2.2 x 2.1 mm, (LxW))
simulation model Agl_HLMPQ400 (Diode)
signal-integrity model LED
pins: 1 A, 2 K

## HLMP-Q605-F0011
designator D?
Subminiature Green LED Lamp; LuminousIntensity: 1mcd (Minimum).; PCB_Layout: Complies with manufacturer's recommendation.; Published: 11-Dec-2002; LatestRevisionDate: 19-Mar-2004; LatestRevisionNote: Silkscreen size reduced.; DatasheetDocument: 30-Apr-2002; PackageDocument: 19-Apr-2001; PackageReference: 2.2X2.1X2.9; Publisher: Altium Limited; LED_Colour: Green; ComponentLink1Description: Manufacturer Link; ComponentLink1URL: http://www.agilent.com/; ComponentLink2Description: Datasheet; ComponentLink2URL: http://cp.literature.agilent.com/litweb/pdf/5988-6260EN.pdf
footprint 2.2X2.1X2.9 (SM LED; 2 Gull Wing Leads; Body 2.2 x 2.1 mm, (LxW))
simulation model Agl_HLMPQ605 (Diode)
signal-integrity model LED
pins: 1 A, 2 K

## HLMP-Q605-F0012
designator D?
Subminiature Green LED Lamp; LuminousIntensity: 1mcd (Minimum).; PCB_Layout: Complies with manufacturer's recommendation.; Published: 11-Dec-2002; LatestRevisionDate: 19-Mar-2004; LatestRevisionNote: Silkscreen size reduced.; DatasheetDocument: 30-Apr-2002; PackageDocument: 19-Apr-2001; PackageReference: 2.2X2.1X2.9; Publisher: Altium Limited; LED_Colour: Green; ComponentLink1Description: Manufacturer Link; ComponentLink1URL: http://www.agilent.com/; ComponentLink2Description: Datasheet; ComponentLink2URL: http://cp.literature.agilent.com/litweb/pdf/5988-6260EN.pdf
footprint 2.2X2.1X2.9 (SM LED; 2 Gull Wing Leads; Body 2.2 x 2.1 mm, (LxW))
simulation model Agl_HLMPQ605 (Diode)
signal-integrity model LED
pins: 1 A, 2 K

## HLMP-Q605-F0031
designator D?
Subminiature Green LED Lamp; LuminousIntensity: 1mcd (Minimum).; PCB_Layout: Complies with manufacturer's recommendation.; DrillSize: Nominal, Rounded to nearest 0.05mm; Published: 11-Dec-2002; DatasheetDocument: 30-Apr-2002; PackageDocument: 19-Apr-2001; PackageReference: 2.2X2.1X2.9Z; Publisher: Altium Limited; LED_Colour: Green; ComponentLink1Description: Manufacturer Link; ComponentLink1URL: http://www.agilent.com/; ComponentLink2Description: Datasheet; ComponentLink2URL: http://cp.literature.agilent.com/litweb/pdf/5988-6260EN.pdf
footprint 2.2X2.1X2.9Z (SM LED; 2 Z-Bend Leads)
simulation model Agl_HLMPQ605 (Diode)
signal-integrity model LED
pins: 1 A, 2 K

## HLMT-PG00-P0031
designator D?
Subminiature High Performance TS AlInGaP Red LED Lamp; LuminousIntensity: 40mcd (Minimum).; PCB_Layout: Complies with manufacturer's recommendation.; DrillSize: Nominal, Rounded to nearest 0.05mm; Published: 11-Dec-2002; DatasheetDocument: 24-Oct-2001; PackageDocument: 19-Apr-2001; PackageReference: 2.2X2.1X2.2Z; Publisher: Altium Limited; LED_Colour: Red; ComponentLink1Description: Manufacturer Link; ComponentLink1URL: http://www.agilent.com/; ComponentLink2Description: Datasheet; ComponentLink2URL: http://cp.literature.agilent.com/litweb/pdf/5988-4548EN.pdf
footprint 2.2X2.1X2.2Z (SM LED; 2 Z-Bend Leads)
simulation model Agl_HLMTPH00 (Diode)
signal-integrity model LED
pins: 1 A, 2 K

## HLMT-PH00-P0011
designator D?
Subminiature High Performance TS AlInGaP Red/Orange LED Lamp; LuminousIntensity: 40mcd (Minimum).; LED_Colour: Red & Orange; PCB_Layout: Complies with manufacturer's recommendation.; Published: 11-Dec-2002; LatestRevisionDate: 19-Mar-2004; LatestRevisionNote: Silkscreen size reduced.; DatasheetDocument: 24-Oct-2001; PackageDocument: 19-Apr-2001; PackageReference: 2.2X2.1X2.2; Publisher: Altium Limited; ComponentLink1Description: Manufacturer Link; ComponentLink1URL: http://www.agilent.com/; ComponentLink2Description: Datasheet; ComponentLink2URL: http://cp.literature.agilent.com/litweb/pdf/5988-4548EN.pdf
footprint 2.2X2.1X2.2 (SM LED; 2 Gull Wing Leads; Body 2.2 x 2.1 mm, (LxW))
simulation model Agl_HLMTPH00 (Diode)
signal-integrity model LED
pins: 1 A, 2 K

## HLMT-PH00-P0012
designator D?
Subminiature High Performance TS AlInGaP Red/Orange LED Lamp; LuminousIntensity: 40mcd (Minimum).; LED_Colour: Red & Orange; PCB_Layout: Complies with manufacturer's recommendation.; Published: 11-Dec-2002; LatestRevisionDate: 19-Mar-2004; LatestRevisionNote: Silkscreen size reduced.; DatasheetDocument: 24-Oct-2001; PackageDocument: 19-Apr-2001; PackageReference: 2.2X2.1X2.2; Publisher: Altium Limited; ComponentLink1Description: Manufacturer Link; ComponentLink1URL: http://www.agilent.com/; ComponentLink2Description: Datasheet; ComponentLink2URL: http://cp.literature.agilent.com/litweb/pdf/5988-4548EN.pdf
footprint 2.2X2.1X2.2 (SM LED; 2 Gull Wing Leads; Body 2.2 x 2.1 mm, (LxW))
simulation model Agl_HLMTPH00 (Diode)
signal-integrity model LED
pins: 1 A, 2 K

## HLMT-PH00-P0021
designator D?
Subminiature High Performance AlInGaP Red/Orange LED Lamp; LuminousIntensity: 40mcd (Minimum).; LED_Colour: Red & Orange; PCB_Layout: Complies with manufacturer's recommendation.; DrillSize: Nominal, Rounded to nearest 0.05mm; Published: 11-Dec-2002; DatasheetDocument: 24-Oct-2001; PackageDocument: 19-Apr-2001; PackageReference: 2.2X2.1X2.2Y; Publisher: Altium Limited; ComponentLink1Description: Manufacturer Link; ComponentLink1URL: http://www.agilent.com/; ComponentLink2Description: Datasheet; ComponentLink2URL: http://cp.literature.agilent.com/litweb/pdf/5988-4548EN.pdf
footprint 2.2X2.1X2.2Y (SM LED; 2 Yoke Leads)
simulation model Agl_HLMTPH00 (Diode)
signal-integrity model LED
pins: 1 A, 2 K

## HLMT-PH00-P0022
designator D?
Subminiature High Performance AlInGaP Red/Orange LED Lamp; LuminousIntensity: 40mcd (Minimum).; LED_Colour: Red & Orange; PCB_Layout: Complies with manufacturer's recommendation.; DrillSize: Nominal, Rounded to nearest 0.05mm; Published: 11-Dec-2002; DatasheetDocument: 24-Oct-2001; PackageDocument: 19-Apr-2001; PackageReference: 2.2X2.1X2.2Y; Publisher: Altium Limited; ComponentLink1Description: Manufacturer Link; ComponentLink1URL: http://www.agilent.com/; ComponentLink2Description: Datasheet; ComponentLink2URL: http://cp.literature.agilent.com/litweb/pdf/5988-4548EN.pdf
footprint 2.2X2.1X2.2Y (SM LED; 2 Yoke Leads)
simulation model Agl_HLMTPH00 (Diode)
signal-integrity model LED
pins: 1 A, 2 K

## HLMT-PL00-P0W11
designator D?
Subminiature High Performance TS AlInGaP Amber LED Lamp; LuminousIntensity: 40mcd (Minimum).; PCB_Layout: Complies with manufacturer's recommendation.; Published: 11-Dec-2002; LatestRevisionDate: 19-Mar-2004; LatestRevisionNote: Silkscreen size reduced.; DatasheetDocument: 24-Oct-2001; PackageDocument: 19-Apr-2001; PackageReference: 2.2X2.1X2.2; Publisher: Altium Limited; LED_Colour: Amber; ComponentLink1Description: Manufacturer Link; ComponentLink1URL: http://www.agilent.com/; ComponentLink2Description: Datasheet; ComponentLink2URL: http://cp.literature.agilent.com/litweb/pdf/5988-4548EN.pdf
footprint 2.2X2.1X2.2 (SM LED; 2 Gull Wing Leads; Body 2.2 x 2.1 mm, (LxW))
simulation model Agl_HLMTPH00 (Diode)
signal-integrity model LED
pins: 1 A, 2 K

## HLMT-PL00-P0W12
designator D?
Subminiature High Performance AlInGaP Amber LED Lamp; LuminousIntensity: 40mcd (Minimum).; PCB_Layout: Complies with manufacturer's recommendation.; Published: 11-Dec-2002; LatestRevisionDate: 19-Mar-2004; LatestRevisionNote: Silkscreen size reduced.; DatasheetDocument: 24-Oct-2001; PackageDocument: 19-Apr-2001; PackageReference: 2.2X2.1X2.2; Publisher: Altium Limited; LED_Colour: Amber; ComponentLink1Description: Manufacturer Link; ComponentLink1URL: http://www.agilent.com/; ComponentLink2Description: Datasheet; ComponentLink2URL: http://cp.literature.agilent.com/litweb/pdf/5988-4548EN.pdf
footprint 2.2X2.1X2.2 (SM LED; 2 Gull Wing Leads; Body 2.2 x 2.1 mm, (LxW))
simulation model Agl_HLMTPH00 (Diode)
signal-integrity model LED
pins: 1 A, 2 K

## HLMT-PL00-P0W22
designator D?
Subminiature High Performance AlInGaP Amber LED Lamp; LuminousIntensity: 40mcd (Minimum).; PCB_Layout: Complies with manufacturer's recommendation.; DrillSize: Nominal, Rounded to nearest 0.05mm; Published: 11-Dec-2002; DatasheetDocument: 24-Oct-2001; PackageDocument: 19-Apr-2001; PackageReference: 2.2X2.1X2.2Y; Publisher: Altium Limited; LED_Colour: Amber; ComponentLink1Description: Manufacturer Link; ComponentLink1URL: http://www.agilent.com/; ComponentLink2Description: Datasheet; ComponentLink2URL: http://cp.literature.agilent.com/litweb/pdf/5988-4548EN.pdf
footprint 2.2X2.1X2.2Y (SM LED; 2 Yoke Leads)
simulation model Agl_HLMTPH00 (Diode)
signal-integrity model LED
pins: 1 A, 2 K

## HLMT-PL00-P0W31
designator D?
Subminiature High Performance AlInGaP Amber LED Lamp; LuminousIntensity: 40mcd (Minimum).; PCB_Layout: Complies with manufacturer's recommendation.; DrillSize: Nominal, Rounded to nearest 0.05mm; Published: 11-Dec-2002; DatasheetDocument: 24-Oct-2001; PackageDocument: 19-Apr-2001; PackageReference: 2.2X2.1X2.2Z; Publisher: Altium Limited; LED_Colour: Amber; ComponentLink1Description: Manufacturer Link; ComponentLink1URL: http://www.agilent.com/; ComponentLink2Description: Datasheet; ComponentLink2URL: http://cp.literature.agilent.com/litweb/pdf/5988-4548EN.pdf
footprint 2.2X2.1X2.2Z (SM LED; 2 Z-Bend Leads)
simulation model Agl_HLMTPH00 (Diode)
signal-integrity model LED
pins: 1 A, 2 K

## HLMT-QH00-T0011
designator D?
Subminiature High Performance AlInGaP Red/Orange LED Lamp; LuminousIntensity: 250mcd (Minimum).; LED_Colour: Red & Orange; PCB_Layout: Complies with manufacturer's recommendation.; Published: 11-Dec-2002; LatestRevisionDate: 19-Mar-2004; LatestRevisionNote: Silkscreen size reduced.; DatasheetDocument: 24-Oct-2001; PackageDocument: 19-Apr-2001; PackageReference: 2.2X2.1X2.9; Publisher: Altium Limited; ComponentLink1Description: Manufacturer Link; ComponentLink1URL: http://www.agilent.com/; ComponentLink2Description: Datasheet; ComponentLink2URL: http://cp.literature.agilent.com/litweb/pdf/5988-4548EN.pdf
footprint 2.2X2.1X2.9 (SM LED; 2 Gull Wing Leads; Body 2.2 x 2.1 mm, (LxW))
simulation model Agl_HLMTPH00 (Diode)
signal-integrity model LED
pins: 1 A, 2 K

## HLMT-QH00-T0021
designator D?
Subminiature High Performance AlInGaP Red/Orange LED Lamp; LuminousIntensity: 250mcd (Minimum).; LED_Colour: Red & Orange; PCB_Layout: Complies with manufacturer's recommendation.; DrillSize: Nominal, Rounded to nearest 0.05mm; Published: 11-Dec-2002; DatasheetDocument: 24-Oct-2001; PackageDocument: 19-Apr-2001; PackageReference: 2.2X2.1X2.9Y; Publisher: Altium Limited; ComponentLink1Description: Manufacturer Link; ComponentLink1URL: http://www.agilent.com/; ComponentLink2Description: Datasheet; ComponentLink2URL: http://cp.literature.agilent.com/litweb/pdf/5988-4548EN.pdf
footprint 2.2X2.1X2.9Y (SM LED; 2 Yoke Leads)
simulation model Agl_HLMTPH00 (Diode)
signal-integrity model LED
pins: 1 A, 2 K

## HLMT-QH00-T0031
designator D?
Subminiature High Performance AlInGaP Red/Orange LED Lamp; LuminousIntensity: 250mcd (Minimum).; LED_Colour: Red & Orange; PCB_Layout: Complies with manufacturer's recommendation.; DrillSize: Nominal, Rounded to nearest 0.05mm; Published: 11-Dec-2002; DatasheetDocument: 24-Oct-2001; PackageDocument: 19-Apr-2001; PackageReference: 2.2X2.1X2.9Z; Publisher: Altium Limited; ComponentLink1Description: Manufacturer Link; ComponentLink1URL: http://www.agilent.com/; ComponentLink2Description: Datasheet; ComponentLink2URL: http://cp.literature.agilent.com/litweb/pdf/5988-4548EN.pdf
footprint 2.2X2.1X2.9Z (SM LED; 2 Z-Bend Leads)
simulation model Agl_HLMTPH00 (Diode)
signal-integrity model LED
pins: 1 A, 2 K

## HLMT-QL00-T0011
designator D?
Subminiature High Performance AlInGaP Amber LED Lamp; LuminousIntensity: 250mcd (Minimum).; PCB_Layout: Complies with manufacturer's recommendation.; Published: 11-Dec-2002; LatestRevisionDate: 19-Mar-2004; LatestRevisionNote: Silkscreen size reduced.; DatasheetDocument: 24-Oct-2001; PackageDocument: 19-Apr-2001; PackageReference: 2.2X2.1X2.9; Publisher: Altium Limited; LED_Colour: Amber; ComponentLink1Description: Manufacturer Link; ComponentLink1URL: http://www.agilent.com/; ComponentLink2Description: Datasheet; ComponentLink2URL: http://cp.literature.agilent.com/litweb/pdf/5988-4548EN.pdf
footprint 2.2X2.1X2.9 (SM LED; 2 Gull Wing Leads; Body 2.2 x 2.1 mm, (LxW))
simulation model Agl_HLMTPH00 (Diode)
signal-integrity model LED
pins: 1 A, 2 K

## HLMT-QL00-T0021
designator D?
Subminiature High Performance AlInGaP Amber LED Lamp; LuminousIntensity: 250mcd (Minimum).; PCB_Layout: Complies with manufacturer's recommendation.; DrillSize: Nominal, Rounded to nearest 0.05mm; Published: 11-Dec-2002; DatasheetDocument: 24-Oct-2001; PackageDocument: 19-Apr-2001; PackageReference: 2.2X2.1X2.9Y; Publisher: Altium Limited; LED_Colour: Amber; ComponentLink1Description: Manufacturer Link; ComponentLink1URL: http://www.agilent.com/; ComponentLink2Description: Datasheet; ComponentLink2URL: http://cp.literature.agilent.com/litweb/pdf/5988-4548EN.pdf
footprint 2.2X2.1X2.9Y (SM LED; 2 Yoke Leads)
simulation model Agl_HLMTPH00 (Diode)
signal-integrity model LED
pins: 1 A, 2 K

## HLMT-QL00-T0024
designator D?
Subminiature High Performance AlInGaP Amber LED Lamp; LuminousIntensity: 250mcd (Minimum).; PCB_Layout: Complies with manufacturer's recommendation.; DrillSize: Nominal, Rounded to nearest 0.05mm; Published: 11-Dec-2002; DatasheetDocument: 24-Oct-2001; PackageDocument: 19-Apr-2001; PackageReference: 2.2X2.1X2.9Y; Publisher: Altium Limited; LED_Colour: Amber; ComponentLink1Description: Manufacturer Link; ComponentLink1URL: http://www.agilent.com/; ComponentLink2Description: Datasheet; ComponentLink2URL: http://cp.literature.agilent.com/litweb/pdf/5988-4548EN.pdf
footprint 2.2X2.1X2.9Y (SM LED; 2 Yoke Leads)
simulation model Agl_HLMTPH00 (Diode)
signal-integrity model LED
pins: 1 A, 2 K

## HLMT-QL00-T0031
designator D?
Subminiature High Performance AlInGaP Amber LED Lamp; LuminousIntensity: 250mcd (Minimum).; PCB_Layout: Complies with manufacturer's recommendation.; DrillSize: Nominal, Rounded to nearest 0.05mm; Published: 11-Dec-2002; DatasheetDocument: 24-Oct-2001; PackageDocument: 19-Apr-2001; PackageReference: 2.2X2.1X2.9Z; Publisher: Altium Limited; LED_Colour: Amber; ComponentLink1Description: Manufacturer Link; ComponentLink1URL: http://www.agilent.com/; ComponentLink2Description: Datasheet; ComponentLink2URL: http://cp.literature.agilent.com/litweb/pdf/5988-4548EN.pdf
footprint 2.2X2.1X2.9Z (SM LED; 2 Z-Bend Leads)
simulation model Agl_HLMTPH00 (Diode)
signal-integrity model LED
pins: 1 A, 2 K

## HSMA-A100-Q00J1
designator D?
Surface Mount LED Indicator, Amber; LuminousIntensity: 63mcd (Minimum).; PCB_Layout: Complies with manufacturer's recommendation.; Published: 11-Dec-2002; DatasheetDocument: 16-Apr-2002; PackageDocument: 16-Apr-2002; PackageReference: 3.5X2.8X1.9; Publisher: Altium Limited; LED_Colour: Amber; ComponentLink1Description: Manufacturer Link; ComponentLink1URL: http://www.agilent.com/; ComponentLink2Description: Datasheet; ComponentLink2URL: http://cp.literature.agilent.com/litweb/pdf/5988-6546EN.pdf
footprint 3.5X2.8X1.9 (SM LED; 2 C-Bend Leads; Body 3.5 x 2.8 x 1.9 mm, inc leads (LxWxH typ))
simulation model Agl_HSMAC191 (Diode)
signal-integrity model LED
pins: 1 A, 2 K

## HSMA-C110
designator D?
High Performance Chip LED, Amber; LuminousIntensity: 25mcd (Minimum).; PCB_Layout: Complies with manufacturer's recommendation.; Published: 11-Dec-2002; DatasheetDocument: 11-Mar-2002; PackageDocument: 11-Mar-2002; PackageReference: 3.2X1.0X1.5; Publisher: Altium Limited; LED_Colour: Amber; ComponentLink1Description: Manufacturer Link; ComponentLink1URL: http://www.agilent.com/; ComponentLink2Description: Datasheet; ComponentLink2URL: http://cp.literature.agilent.com/litweb/pdf/5988-5891EN.pdf
footprint 3.2X1.0X1.5 (SM Right-Angle Mount LED; 3 Leads; Body 3.2 x 1.0 x 1.5 mm (LxWxH))
simulation model Agl_HSMAC191 (Diode)
pins: 1 A, 2 K, 3 Mount

## HSMA-C170
designator D?
High Performance Chip LED, Amber; LuminousIntensity: 25mcd (Minimum).; PCB_Layout: Complies with manufacturer's recommendation.; Published: 11-Dec-2002; DatasheetDocument: 11-Mar-2002; PackageDocument: 29-Oct-2001; PackageReference: 2.0X1.25X0.8; Publisher: Altium Limited; LED_Colour: Amber; ComponentLink1Description: Manufacturer Link; ComponentLink1URL: http://www.agilent.com/; ComponentLink2Description: Datasheet; ComponentLink2URL: http://cp.literature.agilent.com/litweb/pdf/5988-5891EN.pdf
footprint 2.0X1.25X0.8 (SM LED; 2 Flat Leads)
simulation model Agl_HSMAC191 (Diode)
signal-integrity model LED
pins: 1 A, 2 K

## HSMA-C177
designator D?
Low Profile Chip LED, Amber; LuminousIntensity: 25mcd (Minimum).; PCB_Layout: Complies with manufacturer's recommendation.; Published: 11-Dec-2002; DatasheetDocument: 27-Jan-2002; PackageDocument: 27-Jan-2002; PackageReference: 2.1X1.25X0.4; Publisher: Altium Limited; LED_Colour: Amber; ComponentLink1Description: Manufacturer Link; ComponentLink1URL: http://www.agilent.com/; ComponentLink2Description: Datasheet; ComponentLink2URL: http://cp.literature.agilent.com/litweb/pdf/5988-5501EN.pdf
footprint 2.1X1.25X0.4 (SM LED; 2 Flat Leads)
simulation model Agl_HSMAC177 (Diode)
signal-integrity model LED
pins: 1 A, 2 K

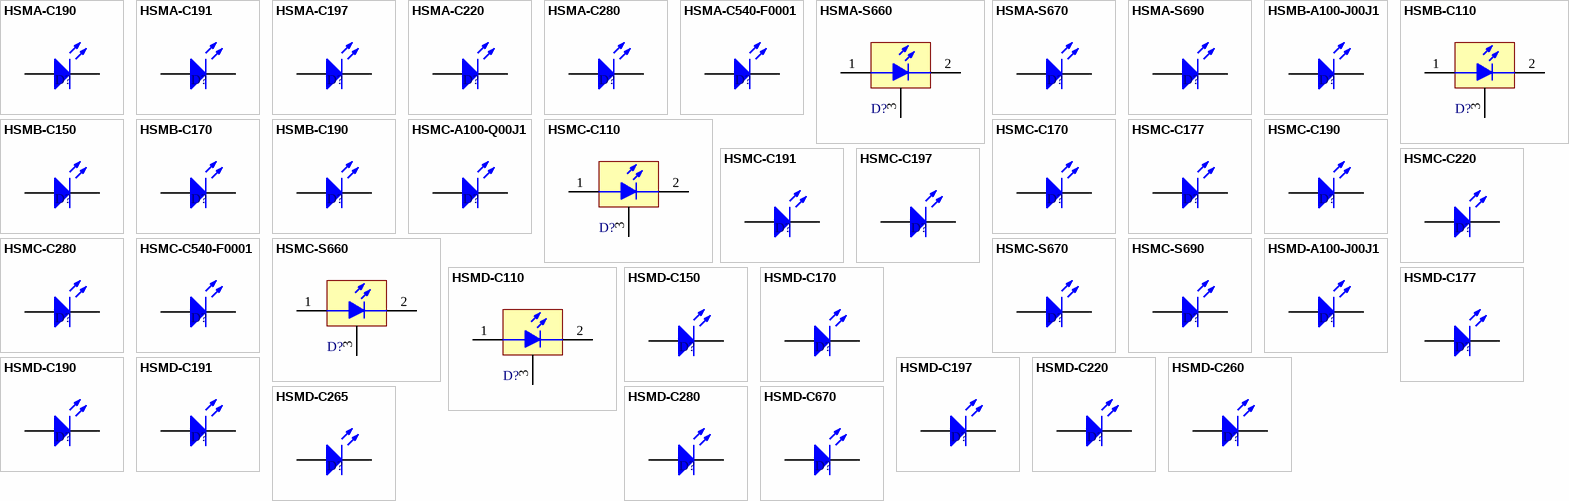
[diagram p5: symbols HSMA-C190 to HSMD-C670]